# Altium schematic symbol library Components - 13.08.24 - 03.39.SchLib: 1 symbol
Pins are listed as number, name and electrical type; pins without a type are passive.

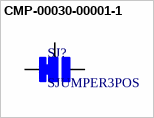
[diagram p0: symbol CMP-00030-00001-1]

## CMP-00030-00001-1
designator SJ?, comment SJUMPER3POS
Solder jumer 3 pads and pins; Pins: 3
footprint SJUMPER3POS-Footprint-1
pins: 1, 2, 3